# EAGLE library part PICO (library UNIT_Biblioteca_Modulos)
RP2040 microcontroller chip designed by Raspberry Pi in the United Kingdom 2 SPI, 2 I2C, 2 UART, 3 12-bit ADC, 16 controllable PWM channels Source: Datasheet <https://datasheets.raspberrypi.org/pico/pico_datasheet.pdf>
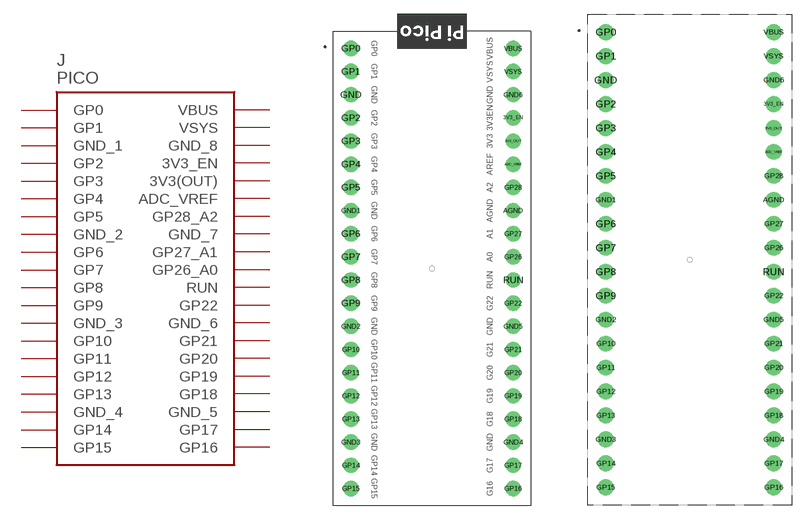
[diagram p9: symbol with the pads of PICO; footprints PICO, PICO_DASHED_SILKSCREEN]

Designator prefix J

## PICO" (CLASS: Modules; DESCRIPTION: Raspberry Pi Pico; MANUFACTURER_NAME: Raspberry Pi; MANUFACTURER_PART_NUMBER: Pico; VENDOR_PART_NUMBER: AR1942; VENDOR_PRICE-STOCK: https://uelectronics.com/producto/raspberry-pi-pico-rp2040-arm-cortex-m0/)  [PICO]
3V3_EN  3V3_EN
3V3_OUT  3V3(OUT)
ADC_VREF  ADC_VREF
AGND  GND_7
GND  GND_8
GND1  GND_1
GND2  GND_2
GND3  GND_3
GND4  GND_4
GND5  GND_5
GND6  GND_6
GP0  GP0
GP1  GP1
GP2  GP2
GP3  GP3
GP4  GP4
GP5  GP5
GP6  GP6
GP7  GP7
GP8  GP8
GP9  GP9
GP10  GP10
GP11  GP11
GP12  GP12
GP13  GP13
GP14  GP14
GP15  GP15
GP16  GP16
GP17  GP17
GP18  GP18
GP19  GP19
GP20  GP20
GP21  GP21
GP22  GP22
GP26  GP26_A0
GP27  GP27_A1
GP28  GP28_A2
RUN  RUN
VBUS  VBUS
VSYS  VSYS

## PICODASHED_SILKSCREEN  [PICO_DASHED_SILKSCREEN]
Pads as for PICO

## PICO (DESCRIPTION: 2.54mm 1 20P -40℃~+105℃ 1x20P 7.1mm Top 3A Surface Mount,Vertical Square Hole SMD,P=2.54mm(Staggered Pins) Headers, Receptacles, Female Sockets ROHS; MANUFACTURER_NAME: Wcon; MANUFACTURER_PART_NUMBER: 2171-120MS0CUNT2; VENDOR_PART_NUMBER: C920840; VENDOR_PRICE-STOCK: https://www.lcsc.com/product-detail/C920840.html)  [PICO_SMD]
3V3(OUT)  3V3(OUT)
3V3_EN  3V3_EN
ADC_VREF  ADC_VREF
GND1  GND_1
GND2  GND_2
GND3  GND_3
GND4  GND_4
GND5  GND_5
GND6  GND_6
GND7  GND_7
GND8  GND_8
GP0  GP0
GP1  GP1
GP2  GP2
GP3  GP3
GP4  GP4
GP5  GP5
GP6  GP6
GP7  GP7
GP8  GP8
GP9  GP9
GP10  GP10
GP11  GP11
GP12  GP12
GP13  GP13
GP14  GP14
GP15  GP15
GP16  GP16
GP17  GP17
GP18  GP18
GP19  GP19
GP20  GP20
GP21  GP21
GP22  GP22
GP26  GP26_A0
GP27  GP27_A1
GP28  GP28_A2
RUN  RUN
VBUS  VBUS
VSYS  VSYS

## Footprint PICO (pad centres in mm)
PICO-2
drill 1 pad 1.676: 3V3_EN 17.78,40.64; 3V3_OUT 17.78,38.1; ADC_VREF 17.78,35.56; AGND 17.78,30.48; GND 0,43.18; GND1 0,30.48; GND2 0,17.78; GND3 0,5.08; GND4 17.78,5.08; GND5 17.78,17.78; GND6 17.78,43.18; GP0 0,48.26; GP1 0,45.72; GP2 0,40.64; GP3 0,38.1; GP4 0,35.56; GP5 0,33.02; GP6 0,27.94; GP7 0,25.4; GP8 0,22.86; GP9 0,20.32; GP10 0,15.24; GP11 0,12.7; GP12 0,10.16; GP13 0,7.62; GP14 0,2.54; GP15 0,0; GP16 17.78,0; GP17 17.78,2.54; GP18 17.78,7.62; GP19 17.78,10.16; GP20 17.78,12.7; GP21 17.78,15.24; GP22 17.78,20.32; GP26 17.78,25.4; GP27 17.78,27.94; GP28 17.78,33.02; RUN 17.78,22.86; VBUS 17.78,48.26; VSYS 17.78,45.72

## Footprint PICO_DASHED_SILKSCREEN (pad centres in mm)
PICO-2
drill 1 pad 1.676: 3V3_EN 17.78,40.64; 3V3_OUT 17.78,38.1; ADC_VREF 17.78,35.56; AGND 17.78,30.48; GND 0,43.18; GND1 0,30.48; GND2 0,17.78; GND3 0,5.08; GND4 17.78,5.08; GND5 17.78,17.78; GND6 17.78,43.18; GP0 0,48.26; GP1 0,45.72; GP2 0,40.64; GP3 0,38.1; GP4 0,35.56; GP5 0,33.02; GP6 0,27.94; GP7 0,25.4; GP8 0,22.86; GP9 0,20.32; GP10 0,15.24; GP11 0,12.7; GP12 0,10.16; GP13 0,7.62; GP14 0,2.54; GP15 0,0; GP16 17.78,0; GP17 17.78,2.54; GP18 17.78,7.62; GP19 17.78,10.16; GP20 17.78,12.7; GP21 17.78,15.24; GP22 17.78,20.32; GP26 17.78,25.4; GP27 17.78,27.94; GP28 17.78,33.02; RUN 17.78,22.86; VBUS 17.78,48.26; VSYS 17.78,45.72

## Footprint PICO_SMD (pad centres in mm)
smd 1.9 x 1.02: 3V3(OUT) -10.54,-13.97; 3V3_EN -7.24,-16.51; ADC_VREF -7.24,-11.43; GND1 7.24,-19.05; GND2 10.54,-6.35; GND3 7.24,6.35; GND4 10.54,19.05; GND5 -7.24,19.05; GND6 -10.54,6.35; GND7 -7.24,-6.35; GND8 -10.54,-19.05; GP0 7.24,-24.13; GP1 10.54,-21.59; GP2 10.54,-16.51; GP3 7.24,-13.97; GP4 10.54,-11.43; GP5 7.24,-8.89; GP6 7.24,-3.81; GP7 10.54,-1.27; GP8 7.24,1.27; GP9 10.54,3.81; GP10 10.54,8.89; GP11 7.24,11.43; GP12 10.54,13.97; GP13 7.24,16.51; GP14 7.24,21.59; GP15 10.54,24.13; GP16 -7.24,24.13; GP17 -10.54,21.59; GP18 -10.54,16.51; GP19 -7.24,13.97; GP20 -10.54,11.43; GP21 -7.24,8.89; GP22 -7.24,3.81; GP26 -7.24,-1.27; GP27 -10.54,-3.81; GP28 -10.54,-8.89; RUN -10.54,1.27; VBUS -10.54,-24.13; VSYS -7.24,-21.59